# EAGLE library part TMR_1-??2?SM (library traco-power)
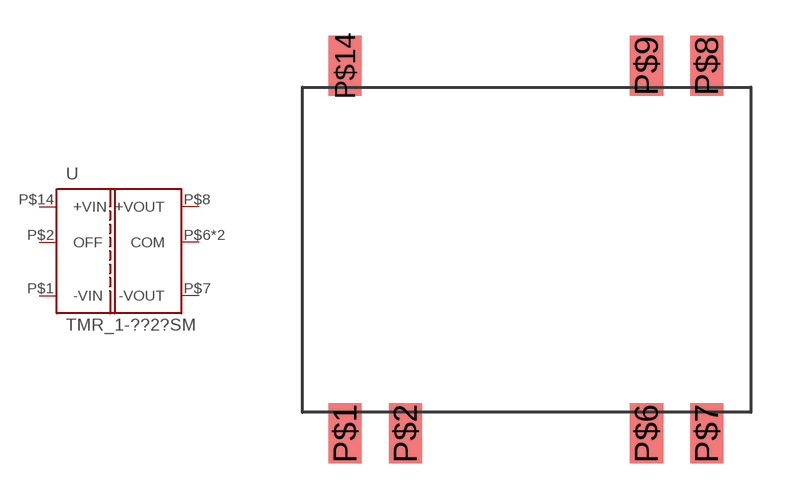
[diagram p0: symbol with the pads of TMR_1-????SM; footprint TMR_1-????SM]

Designator prefix -

## TMR_1-2SM  [TMR_1-????SM]
P$1  -VIN
P$2  OFF
P$6  COM
P$7  -VOUT
P$8  +VOUT
P$9  COM
P$14  +VIN

## Footprint TMR_1-????SM (pad centres in mm)
smd 1.4 x 2.54: P$1 -7.65,-7.725; P$2 -5.11,-7.725; P$6 5.05,-7.725; P$7 7.59,-7.725; P$8 7.59,7.75; P$9 5.05,7.75; P$14 -7.65,7.75